# Altium schematic symbol library ADN8810.SchLib: 2 symbols
Pins are listed as number, name and electrical type; pins without a type are passive.

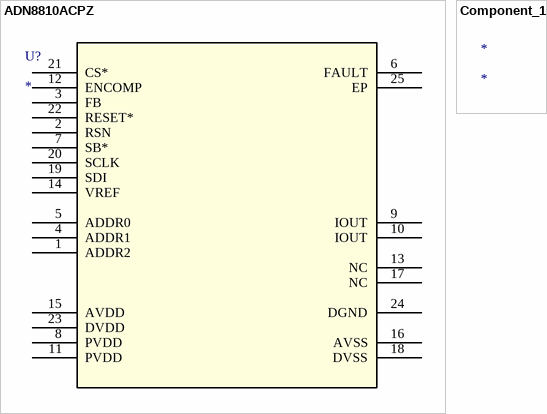
[diagram p0: symbols ADN8810ACPZ to Component_1]

## ADN8810ACPZ
designator U?
Imported; Manufacturer_Part_Number: ADN8810ACPZ; Vendor: Vendor; Value: Value; Type: Type; RefDes: Refdes
footprint CP_24_1
pins: 1 ADDR2, 2 RSN, 3 FB, 4 ADDR1, 5 ADDR0, 6 FAULT, 7 SB*, 8 PVDD (power), 9 IOUT, 10 IOUT, 11 PVDD (power), 12 ENCOMP, 13 NC, 14 VREF, 15 AVDD (power), 16 AVSS, 17 NC, 18 DVSS, 19 SDI, 20 SCLK, 21 CS*, 22 RESET*, 23 DVDD (power), 24 DGND, 25 EP

## Component_1
designator *